# EAGLE library part TPS63060 (library common)
Buck-Boost converter with 2A switching current. 2A/1A output current @ 5V Buck, 1.3A @ 5V Boost (Vin > 4V).Auto transition between Buck and Boost. VIN = 2.5V - 12V VOUT = 2.5V - 8V Load disconnect during shutdown Overtemp Protection Overvoltage Protection Fixed Frequency @ 2.4MHz with Sync possible For use in Lithium battery applications
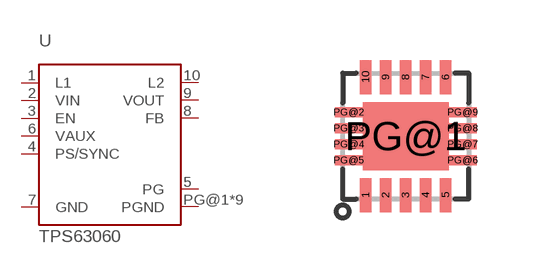
[diagram p42: symbol with the pads of S-PWSON-N10; footprint S-PWSON-N10]

Designator prefix U

## TPS63060 (FREQ: 2.4MHz; IOUT_MAX: 2A; VIN_MAX: 12V; VIN_MIN: 2.5V; VOUT_MAX: 8V; VOUT_MIN: 2.5V)  [S-PWSON-N10]
1  L1
2  VIN
3  EN
4  PS/SYNC
5  PG
6  VAUX
7  GND
8  FB
9  VOUT
10  L2
PG@1  PGND
PG@2  PGND
PG@3  PGND
PG@4  PGND
PG@5  PGND
PG@6  PGND
PG@7  PGND
PG@8  PGND
PG@9  PGND

## Footprint S-PWSON-N10 (pad centres in mm)
This is a TI specific footprint. It is a S-PWSON-N10 footprint that is thermally enhanced. Placing vias in the thermal pad that connect to a ground plane will assist in routing heat away from the chip itself. Vias have not been added directly to the footprint to allow the designer to use the via configuration that best fits the design and capabilities of the fab house that will print the PCB.
smd 0.28 x 0.85: 1 -1,-1.475; 2 -0.5,-1.475; 3 0,-1.475; 4 0.5,-1.475; 5 1,-1.475; 6 1,1.475; 7 0.5,1.475; 8 0,1.475; 9 -0.5,1.475; 10 -1,1.475
smd 2.15 x 1.7: PG@1 0,0
smd 0.7 x 0.25: PG@2 -1.425,0.6; PG@3 -1.425,0.2; PG@4 -1.425,-0.2; PG@5 -1.425,-0.6; PG@6 1.425,-0.6; PG@7 1.425,-0.2; PG@8 1.425,0.2; PG@9 1.425,0.6